# EAGLE library part EC2-5NU (library saha-aux)
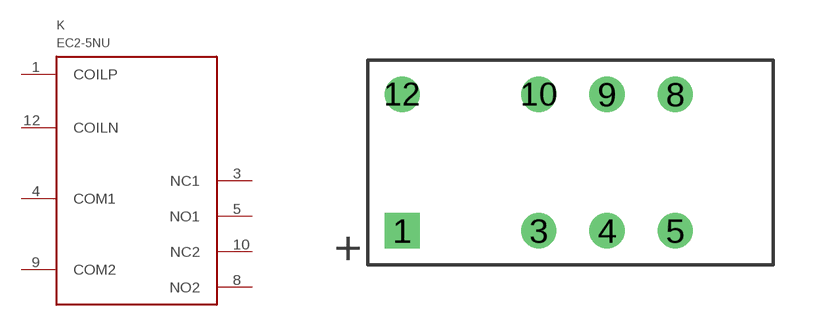
[diagram p6: symbol with the pads of EC2; footprint EC2]

Designator prefix K

## EC2-5NU  [EC2]
1  COILP
3  NC1
4  COM1
5  NO1
8  NO2
9  COM2
10  NC2
12  COILN

## Footprint EC2 (pad centres in mm)
drill 0.8 square: 1 0,0
drill 0.8: 3 5.08,0; 4 7.62,0; 5 10.16,0; 8 10.16,5.08; 9 7.62,5.08; 10 5.08,5.08; 12 0,5.08